# Altium footprint library HEADER_F_1x9_2.54.pcblib: 1 footprints
Each footprint in its own frame and in the unit in brackets; x right, y up, seen from the top. Pads: shape width x height; smd on the part's side, far side on the other; paste and mask are expansions set on the pad; w line width, h text height; cw(c..) or ccw(c..) is an arc to the next point about the centre after c.
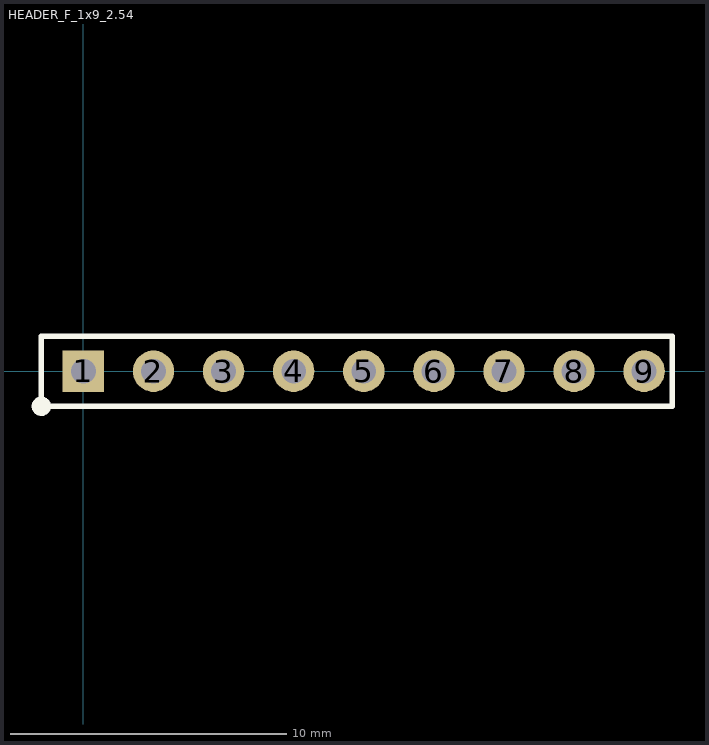
[diagram p0: the footprint, top view; thin cyan lines are the x and y axes]

## HEADER_F_1x9_2.54 [mm] "Connector; Header; 8 Position; Male-Female"
pads (9):
  rect 1.5x1.5 hole 0.9: 1(0,0)
  round 1.5 hole 0.9: 2(2.54,0) 3(5.08,0) 4(7.62,0) 5(10.16,0) 6(12.7,0) 7(15.24,0) 8(17.78,0) 9(20.32,0)
Top Overlay:
  circle w0.3: c-1.524,-1.27 r0.2
  lines w0.2: -1.524,-1.27 21.336,-1.27 21.336,1.27 0.635,1.27 -1.524,1.27 -1.524,-1.27
3D body "pcb_connector_801-87-009-10-001101.stp": height 7, standoff -3, extent -1.524,-1.27 21.336,1.27